# Altium footprint library Crystals.PcbLib: 1 footprints
Each footprint in its own frame and in the unit in brackets; x right, y up, seen from the top. Pads: shape width x height; smd on the part's side, far side on the other; paste and mask are expansions set on the pad; w line width, h text height; cw(c..) or ccw(c..) is an arc to the next point about the centre after c.
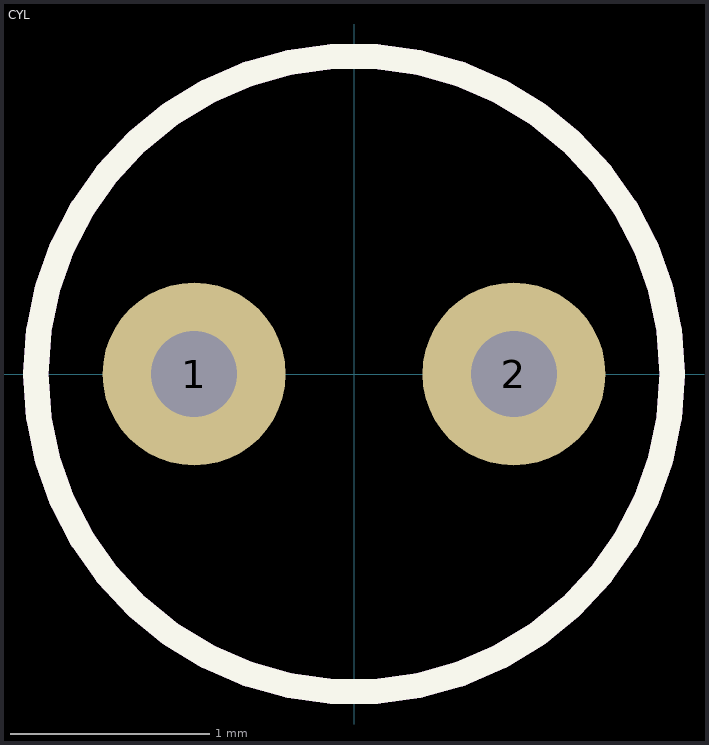
[diagram p0: the footprint, top view; thin cyan lines are the x and y axes]

## CYL [mm]
pads (2):
  round 0.92 hole 0.432: 1(-0.804,0) 2(0.804,0)
Top Overlay:
  circle w0.127: c0,0 r1.6
Mechanical 4:
  circle w0.127: c0,0 r1.6
  circle w0.127: c0,0 r1.6
3D body "CYL.STEP": height 8.25, standoff -2.9, extent -1.55,-1.55 1.55,1.55